# EAGLE library part 1991150 (library headers)
PC TERM BLOCK 8POS 5MM
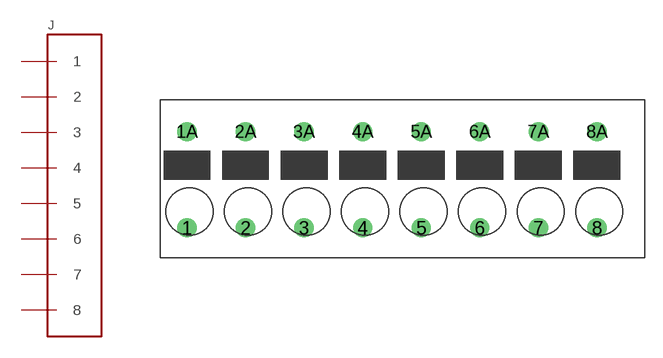
[diagram p6: symbol with the pads of 1991150; footprint 1991150]

Designator prefix J

## 1991150  [1991150]
1  1
1A  1
2  2
2A  2
3  3
3A  3
4  4
4A  4
5  5
5A  5
6  6
6A  6
7  7
7A  7
8  8
8A  8

## Footprint 1991150 (pad centres in mm)
drill 1.1: 1 -17.5,-4.1; 1A -17.5,4.1; 2 -12.5,-4.1; 2A -12.5,4.1; 3 -7.5,-4.1; 3A -7.5,4.1; 4 -2.5,-4.1; 4A -2.5,4.1; 5 2.5,-4.1; 5A 2.5,4.1; 6 7.5,-4.1; 6A 7.5,4.1; 7 12.5,-4.1; 7A 12.5,4.1; 8 17.5,-4.1; 8A 17.5,4.1